# EAGLE library part LTC3610 (library linear-technology)
12A, 24V Monolithic Synchronous Step-Down DC/DC Converter Source: http://www.linear.com ..
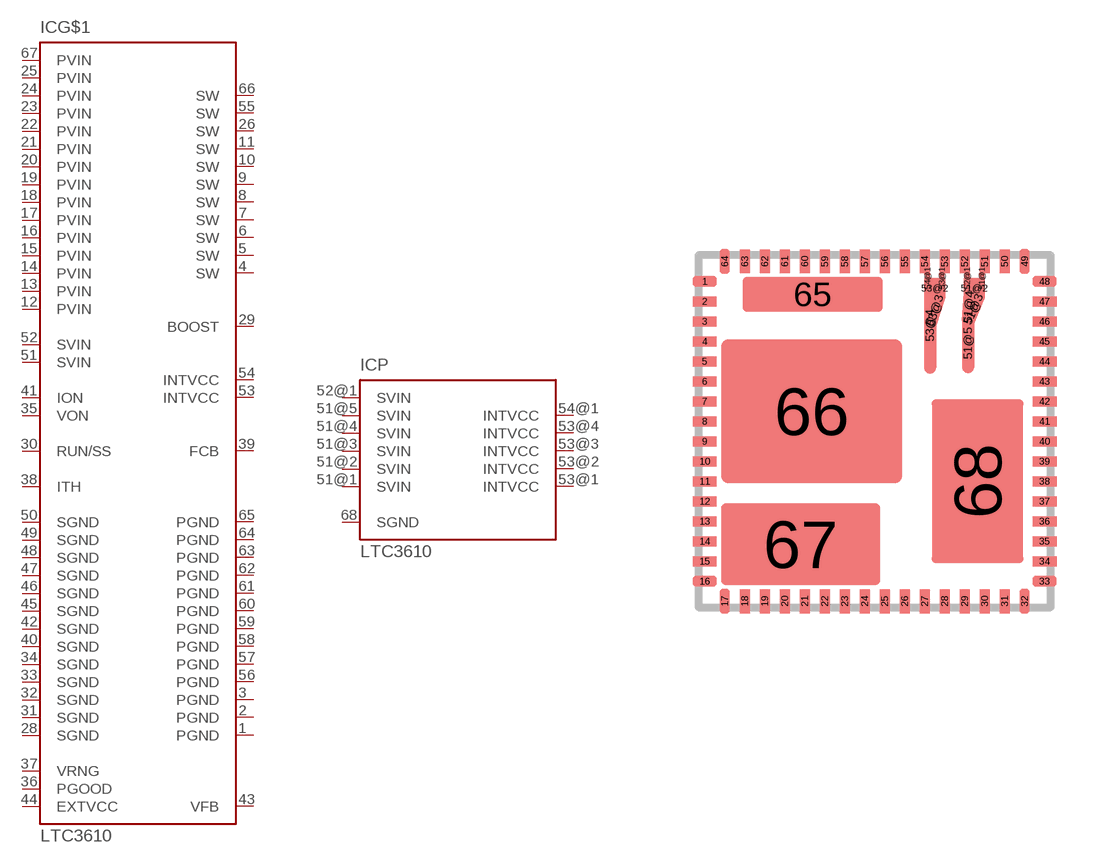
[diagram p33: symbol with the pads of QFN64-9X9; footprint QFN64-9X9]

Designator prefix IC; gates G$1=LTC3610 P=LTC3610-P

## LTC3610 (MPN: LTC3610EWP#PBF; OC_FARNELL: 1536304; OC_NEWARK: 56M8026)  [QFN64-9X9]
1  G$1:PGND  pwr
2  G$1:PGND  pwr
3  G$1:PGND  pwr
4  G$1:SW  in
5  G$1:SW  in
6  G$1:SW  in
7  G$1:SW  in
8  G$1:SW  in
9  G$1:SW  in
10  G$1:SW  in
11  G$1:SW  in
12  G$1:PVIN  pwr
13  G$1:PVIN  pwr
14  G$1:PVIN  pwr
15  G$1:PVIN  pwr
16  G$1:PVIN  pwr
17  G$1:PVIN  pwr
18  G$1:PVIN  pwr
19  G$1:PVIN  pwr
20  G$1:PVIN  pwr
21  G$1:PVIN  pwr
22  G$1:PVIN  pwr
23  G$1:PVIN  pwr
24  G$1:PVIN  pwr
25  G$1:PVIN  pwr
26  G$1:SW  in
28  G$1:SGND  pwr
29  G$1:BOOST  pas
30  G$1:RUN/SS  pas
31  G$1:SGND  pwr
32  G$1:SGND  pwr
33  G$1:SGND  pwr
34  G$1:SGND  pwr
35  G$1:VON  in
36  G$1:PGOOD  oc
37  G$1:VRNG  pas
38  G$1:ITH  pas
39  G$1:FCB  pas
40  G$1:SGND  pwr
41  G$1:ION  in
42  G$1:SGND  pwr
43  G$1:VFB  pas
44  G$1:EXTVCC  in
45  G$1:SGND  pwr
46  G$1:SGND  pwr
47  G$1:SGND  pwr
48  G$1:SGND  pwr
49  G$1:SGND  pwr
50  G$1:SGND  pwr
51  G$1:SVIN  in
51@1  P:SVIN  in
51@2  P:SVIN  in
51@3  P:SVIN  in
51@4  P:SVIN  in
51@5  P:SVIN  in
52  G$1:SVIN  in
52@1  P:SVIN  in
53  G$1:INTVCC  pwr
53@1  P:INTVCC  pwr
53@2  P:INTVCC  pwr
53@3  P:INTVCC  pwr
53@4  P:INTVCC  pwr
54  G$1:INTVCC  pwr
54@1  P:INTVCC  pwr
55  G$1:SW  in
56  G$1:PGND  pwr
57  G$1:PGND  pwr
58  G$1:PGND  pwr
59  G$1:PGND  pwr
60  G$1:PGND  pwr
61  G$1:PGND  pwr
62  G$1:PGND  pwr
63  G$1:PGND  pwr
64  G$1:PGND  pwr
65  G$1:PGND  pwr
66  G$1:SW  in
67  G$1:PVIN  pwr
68  P:SGND  pwr

## Footprint QFN64-9X9 (pad centres in mm)
WP Package 64-Lead QFN Multipad (9mm × 9mm) Source: http://www.linear.com ..
smd 0.6 x 0.25: 1 -4.25,3.75; 2 -4.25,3.25; 3 -4.25,2.75; 4 -4.25,2.25; 5 -4.25,1.75; 6 -4.25,1.25; 7 -4.25,0.75; 8 -4.25,0.25; 9 -4.25,-0.25; 10 -4.25,-0.75; 11 -4.25,-1.25; 12 -4.25,-1.75; 13 -4.25,-2.25; 14 -4.25,-2.75; 15 -4.25,-3.25; 16 -4.25,-3.75; 33 4.25,-3.75; 34 4.25,-3.25; 35 4.25,-2.75; 36 4.25,-2.25; 37 4.25,-1.75; 38 4.25,-1.25; 39 4.25,-0.75; 40 4.25,-0.25; 41 4.25,0.25; 42 4.25,0.75; 43 4.25,1.25; 44 4.25,1.75; 45 4.25,2.25; 46 4.25,2.75; 47 4.25,3.25; 48 4.25,3.75
smd 0.25 x 0.6: 17 -3.75,-4.25; 18 -3.25,-4.25; 19 -2.75,-4.25; 20 -2.25,-4.25; 21 -1.75,-4.25; 22 -1.25,-4.25; 23 -0.75,-4.25; 24 -0.25,-4.25; 25 0.25,-4.25; 26 0.75,-4.25; 27 1.25,-4.25; 28 1.75,-4.25; 29 2.25,-4.25; 30 2.75,-4.25; 31 3.25,-4.25; 32 3.75,-4.25; 49 3.75,4.25; 50 3.25,4.25; 51 2.75,4.25; 52 2.25,4.25; 53 1.75,4.25; 54 1.25,4.25; 55 0.75,4.25; 56 0.25,4.25; 57 -0.25,4.25; 58 -0.75,4.25; 59 -1.25,4.25; 60 -1.75,4.25; 61 -2.25,4.25; 62 -2.75,4.25; 63 -3.25,4.25; 64 -3.75,4.25
smd 0.16 x 0.3: 51@1 2.68,3.83; 52@1 2.31,3.83; 53@1 1.68,3.83; 54@1 1.32,3.83
smd 0.53 x 0.5: 51@2 2.495,3.58; 53@2 1.505,3.58
smd 0.3 x 1 rotated 157: 51@3 2.475,3.045
smd 0.3 x 1 rotated 176: 51@4 2.36,3.1
smd 0.3 x 1.5: 51@5 2.34,2.195
smd 0.3 x 1 rotated 162: 53@3 1.51,3.015
smd 0.3 x 2.4: 53@4 1.39,2.64
smd 3.5 x 0.87: 65 -1.55,3.425
smd 4.53 x 3.6: 66 -1.575,0.5
smd 3.99 x 2.04: 67 -1.85,-2.825
smd 2.3 x 4.1: 68 2.575,-1.25